# EAGLE library part ESP-WROOM-32 (library ESP-WROOM-32)
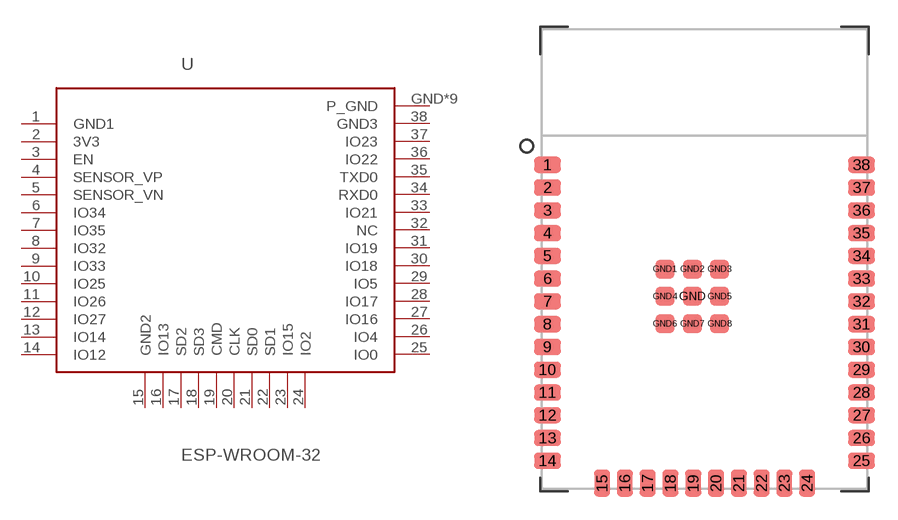
[diagram p0: symbol with the pads of ESP-WROOM-32; footprint ESP-WROOM-32]

Designator prefix -

## ESP-WROOM-32  [ESP-WROOM-32]
1  GND1  pwr
2  3V3  pwr
3  EN
4  SENSOR_VP
5  SENSOR_VN
6  IO34
7  IO35
8  IO32
9  IO33
10  IO25
11  IO26
12  IO27
13  IO14
14  IO12
15  GND2  pwr
16  IO13
17  SD2
18  SD3
19  CMD
20  CLK
21  SD0
22  SD1
23  IO15
24  IO2
25  IO0
26  IO4
27  IO16
28  IO17
29  IO5
30  IO18
31  IO19
32  NC  nc
33  IO21
34  RXD0
35  TXD0
36  IO22
37  IO23
38  GND3  pwr
GND  P_GND  pwr
GND1  P_GND  pwr
GND2  P_GND  pwr
GND3  P_GND  pwr
GND4  P_GND  pwr
GND5  P_GND  pwr
GND6  P_GND  pwr
GND7  P_GND  pwr
GND8  P_GND  pwr

## Footprint ESP-WROOM-32 (pad centres in mm)
smd 1.5 x 0.9: 1 -8.75,5.26; 2 -8.75,3.99; 3 -8.75,2.72; 4 -8.75,1.45; 5 -8.75,0.18; 6 -8.75,-1.09; 7 -8.75,-2.36; 8 -8.75,-3.63; 9 -8.75,-4.9; 10 -8.75,-6.17; 11 -8.75,-7.44; 12 -8.75,-8.71; 13 -8.75,-9.98; 14 -8.75,-11.25; 25 8.75,-11.25; 26 8.75,-9.98; 27 8.75,-8.71; 28 8.75,-7.44; 29 8.75,-6.17; 30 8.75,-4.9; 31 8.75,-3.63; 32 8.75,-2.36; 33 8.75,-1.09; 34 8.75,0.18; 35 8.75,1.45; 36 8.75,2.72; 37 8.75,3.99; 38 8.75,5.26
smd 0.9 x 1.5: 15 -5.71,-12.5; 16 -4.44,-12.5; 17 -3.17,-12.5; 18 -1.9,-12.5; 19 -0.63,-12.5; 20 0.64,-12.5; 21 1.91,-12.5; 22 3.18,-12.5; 23 4.45,-12.5; 24 5.72,-12.5
smd 1.05 x 1.05: GND -0.68,-2.08; GND1 -2.205,-0.555; GND2 -0.68,-0.555; GND3 0.845,-0.555; GND4 -2.205,-2.08; GND5 0.845,-2.08; GND6 -2.205,-3.605; GND7 -0.68,-3.605; GND8 0.845,-3.605